# Altium schematic symbol library miscellaneous.SchLib: 5 symbols
Pins are listed as number, name and electrical type; pins without a type are passive.

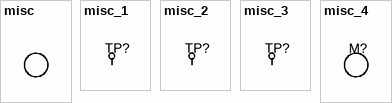
[diagram p0: symbols misc to misc_4]

## misc
designator ?

## misc_1
designator TP?
Test-point round, diameter 0.8mm
footprint testpoint round, diameter 0.8mm
pins: 1

## misc_2
designator TP?
Test-point round, diameter 1.0mm
footprint testpoint round, diameter 1mm
pins: 1

## misc_3
designator TP?
Test-point round, diameter 1.5mm
footprint testpoint round, diameter 1.5mm
pins: 1

## misc_4
designator M?, comment Rubber Feet  (value not drawn)
Rubber Feet, D = 9.5mm, H = 3.1mm, Black; Manufacturer 1: Essentra Components; Manufacturer Part Number 1: RBS-34BK; Supplier 1: Digi-Key; Supplier Part Number 1: RPC4833-ND; Link: https://www.digikey.no/en/products/detail/essentra-components/RBS-34BK/3814621
footprint Rubber Feet, D = 9.5mm, H = 3.1mm